# Altium footprint library Test Point.PcbLib: 36 footprints (part 2 of 3)
Each footprint in its own frame and in the unit in brackets; x right, y up, seen from the top. Pads: shape width x height; smd on the part's side, far side on the other; paste and mask are expansions set on the pad; w line width, h text height; cw(c..) or ccw(c..) is an arc to the next point about the centre after c.
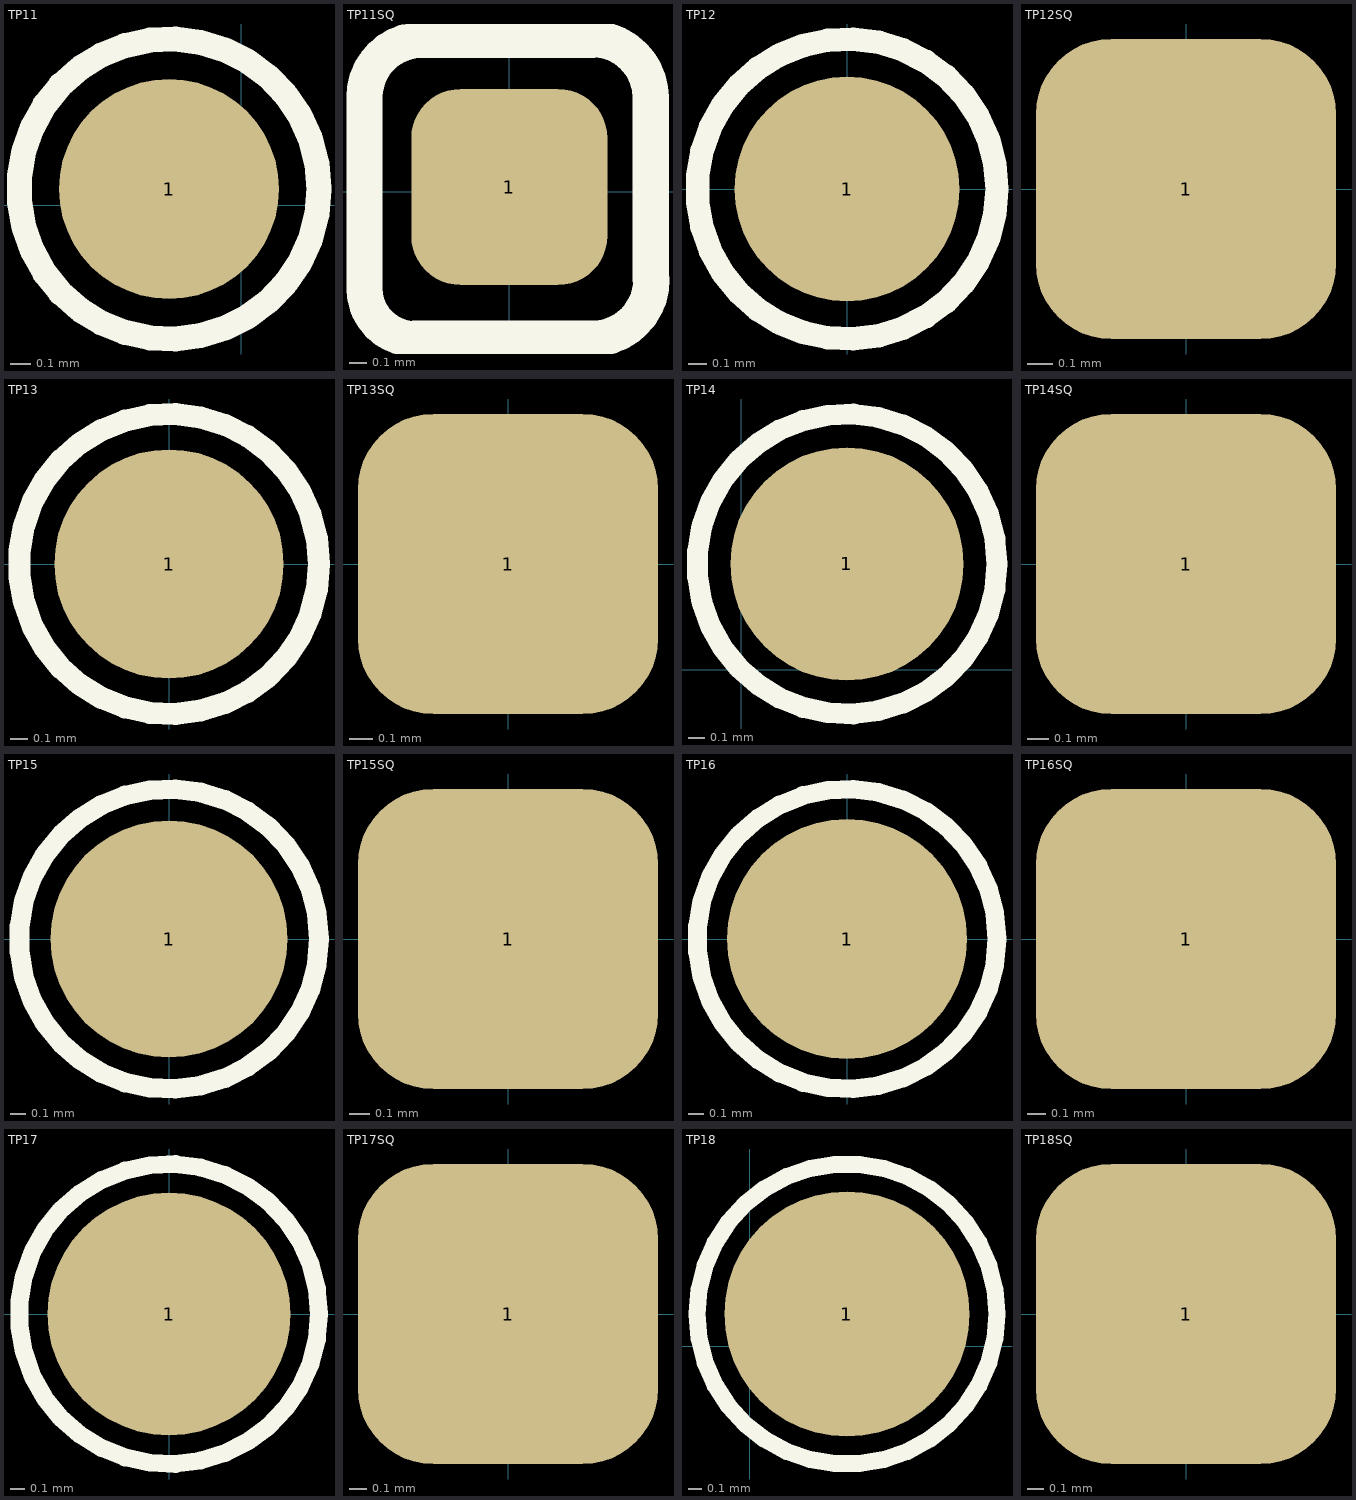
[diagram p1: the footprints below, top view; thin cyan lines are the x and y axes]

## TP11 [mm] "Round SMD Test Pin; 1.1 mm"
pads (1):
  round 1.1 smd: 1(-0.361,0.08)
Top Overlay:
  circle w0.125: c-0.361,0.08 r0.75

## TP11SQ [mm] "Square SMD Test Pin; 1.1 mm"
pads (1):
  rrect50% 1.1x1.1 smd: 1(0,0.025)
Top Overlay:
  lines w0.203: -0.491,0.851 ccw(c-0.491,0.529) -0.813,0.529 -0.813,-0.543 ccw(c-0.529,-0.543) -0.529,-0.827 0.463,-0.826 ccw(c0.463,-0.492) 0.798,-0.492 ; -0.491,0.852 0.465,0.852 ; 0.465,0.856 cw(c0.465,0.528) 0.793,0.528 0.793,-0.492

## TP12 [mm] "Round SMD Test Pin; 1.2 mm"
pads (1):
  round 1.2 smd: 1(0,0)
Top Overlay:
  circle w0.125: c0,0 r0.8

## TP12SQ [mm] "Square SMD Test Pin; 1.2 mm"
pads (1):
  rrect50% 1.2x1.2 smd: 1(0,0)

## TP13 [mm] "Round SMD Test Pin; 1.3 mm"
pads (1):
  round 1.3 smd: 1(0,0)
Top Overlay:
  circle w0.125: c0,0 r0.85

## TP13SQ [mm] "Square SMD Test Pin; 1.3 mm"
pads (1):
  rrect50% 1.3x1.3 smd: 1(0,0)

## TP14 [mm] "Round SMD Test Pin; 1.4 mm"
pads (1):
  round 1.4 smd: 1(0.635,0.635)
Top Overlay:
  circle w0.125: c0.635,0.635 r0.9

## TP14SQ [mm] "Square SMD Test Pin; 1.4 mm"
pads (1):
  rrect50% 1.4x1.4 smd: 1(0,0)

## TP15 [mm] "Round SMD Test Pin; 1.5 mm"
pads (1):
  round 1.5 smd: 1(0,0)
Top Overlay:
  circle w0.125: c0,0 r0.95

## TP15SQ [mm] "Square SMD Test Pin; 1.5 mm"
pads (1):
  rrect50% 1.5x1.5 smd: 1(0,0)

## TP16 [mm] "Round SMD Test Pin; 1.6 mm"
pads (1):
  round 1.6 smd: 1(0,0)
Top Overlay:
  circle w0.125: c0,0 r1

## TP16SQ [mm] "Square SMD Test Pin; 1.6 mm"
pads (1):
  rrect50% 1.6x1.6 smd: 1(0,0)

## TP17 [mm] "Round SMD Test Pin; 1.7 mm"
pads (1):
  round 1.7 smd: 1(0,0)
Top Overlay:
  circle w0.125: c0,0 r1.05

## TP17SQ [mm] "Square SMD Test Pin; 1.7 mm"
pads (1):
  rrect50% 1.7x1.7 smd: 1(0,0)

## TP18 [mm] "Round SMD Test Pin; 1.8 mm"
pads (1):
  round 1.8 smd: 1(0.713,0.238)
Top Overlay:
  circle w0.125: c0.713,0.238 r1.1

## TP18SQ [mm] "Square SMD Test Pin; 1.8 mm"
pads (1):
  rrect50% 1.8x1.8 smd: 1(0,0)